# EAGLE library part TCA6424ARGJR (library TCA6424ARGJR)
IC, 24BIT I2C AND SMBUS I/O EXPNDR, 400K,UQFN-32
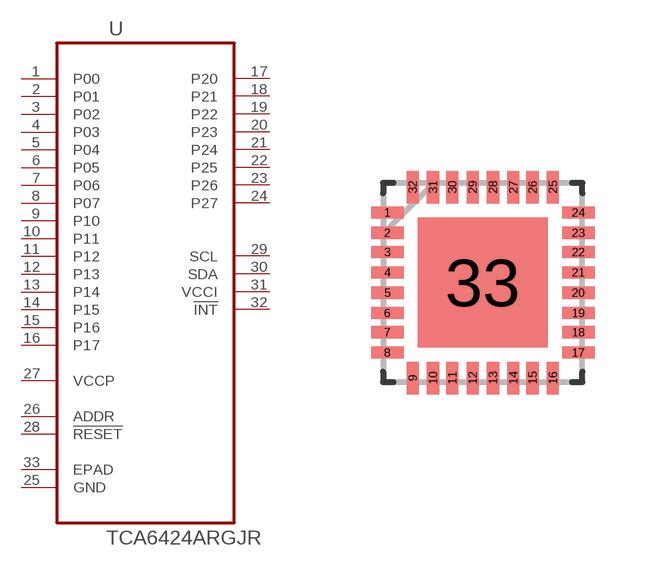
[diagram p0: symbol with the pads of QFN50P500X500X60-33N; footprint QFN50P500X500X60-33N]

Designator prefix U

## TCA6424ARGJR (Availability: Unavailable; Description: Low-Voltage 24-Bit I2C and SMBus I/O Expander 32-UQFN -40 to 85; MF: Texas Instruments; MP: TCA6424ARGJR; Package: UQFN-32 Texas Instruments; Price: None)  [QFN50P500X500X60-33N]
1  P00
2  P01
3  P02
4  P03
5  P04
6  P05
7  P06
8  P07
9  P10
10  P11
11  P12
12  P13
13  P14
14  P15
15  P16
16  P17
17  P20
18  P21
19  P22
20  P23
21  P24
22  P25
23  P26
24  P27
25  GND  pas
26  ADDR  in
27  VCCP  pwr
28  !RESET  in
29  SCL  pas
30  SDA  pas
31  VCCI  pas
32  !INT  out
33  EPAD  pas

## Footprint QFN50P500X500X60-33N (pad centres in mm)
smd 0.813 x 0.305: 1 -2.388,1.753; 2 -2.388,1.245; 3 -2.388,0.762; 4 -2.388,0.254; 5 -2.388,-0.254; 6 -2.388,-0.762; 7 -2.388,-1.245; 8 -2.388,-1.753; 17 2.388,-1.753; 18 2.388,-1.245; 19 2.388,-0.762; 20 2.388,-0.254; 21 2.388,0.254; 22 2.388,0.762; 23 2.388,1.245; 24 2.388,1.753
smd 0.305 x 0.813: 9 -1.753,-2.388; 10 -1.245,-2.388; 11 -0.762,-2.388; 12 -0.254,-2.388; 13 0.254,-2.388; 14 0.762,-2.388; 15 1.245,-2.388; 16 1.753,-2.388; 25 1.753,2.388; 26 1.245,2.388; 27 0.762,2.388; 28 0.254,2.388; 29 -0.254,2.388; 30 -0.762,2.388; 31 -1.245,2.388; 32 -1.753,2.388
smd 3.251 x 3.251: 33 0,0